# EAGLE library part RJHSE-5085-02 (library RJ45)
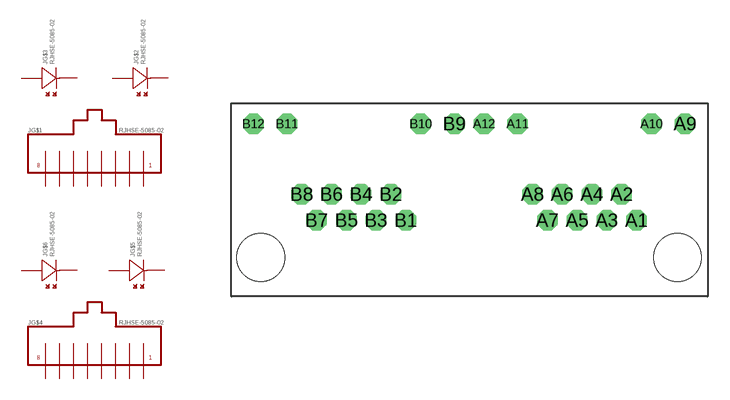
[diagram p0: symbol with the pads of RJHSE-508X-02; footprint RJHSE-508X-02]

Designator prefix J; gates G$1=RJ45 G$2=SINGLE_LED G$3=SINGLE_LED G$4=RJ45 G$5=SINGLE_LED G$6=SINGLE_LED

## RJHSE-5085-02  [RJHSE-508X-02]
A1  G$1:1  pas
A2  G$1:2  pas
A3  G$1:3  pas
A4  G$1:4  pas
A5  G$1:5  pas
A6  G$1:6  pas
A7  G$1:7  pas
A8  G$1:8  pas
A9  G$2:-  pas
A10  G$2:+  pas
A11  G$3:-  pas
A12  G$3:+  pas
B1  G$4:1  pas
B2  G$4:2  pas
B3  G$4:3  pas
B4  G$4:4  pas
B5  G$4:5  pas
B6  G$4:6  pas
B7  G$4:7  pas
B8  G$4:8  pas
B9  G$5:-  pas
B10  G$5:+  pas
B11  G$6:-  pas
B12  G$6:+  pas

## Footprint RJHSE-508X-02 (pad centres in mm)
drill 0.89 octagon: A1 25.65,2.54; A2 24.63,4.32; A3 23.62,2.54; A4 22.6,4.32; A5 21.59,2.54; A6 20.57,4.32; A7 19.56,2.54; A8 18.54,4.32; A9 28.96,9.14; A10 26.67,9.14; A11 17.53,9.14; A12 15.24,9.14; B1 9.9,2.54; B2 8.88,4.32; B3 7.87,2.54; B4 6.85,4.32; B5 5.84,2.54; B6 4.82,4.32; B7 3.81,2.54; B8 2.79,4.32; B9 13.21,9.14; B10 10.92,9.14; B11 1.78,9.14; B12 -0.51,9.14
hole 3.25 at 28.45,0
hole 3.25 at 0,0